# EAGLE library part LTC3407A (library jobygnss)
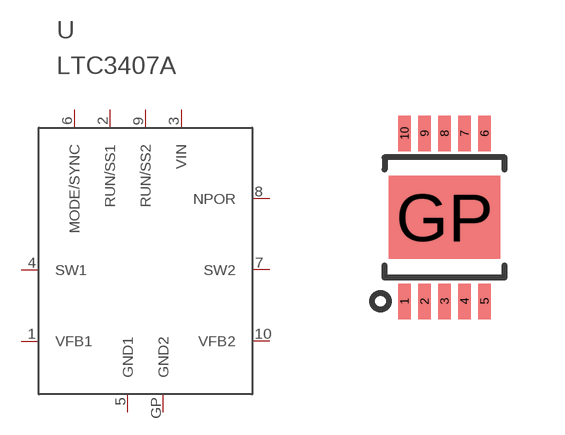
[diagram p9: symbol with the pads of MSOP10; footprint MSOP10]

Designator prefix U

## LTC3407A  [MSOP10]
1  VFB1
2  RUN/SS1
3  VIN
4  SW1
5  GND1
6  MODE/SYNC
7  SW2
8  NPOR
9  RUN/SS2
10  VFB2
GP  GND2

## Footprint MSOP10 (pad centres in mm)
smd 0.305 x 0.889: 1 -1,-2.1; 2 -0.5,-2.1; 3 0,-2.1; 4 0.5,-2.1; 5 1,-2.1; 6 1,2.1; 7 0.5,2.1; 8 0,2.1; 9 -0.5,2.1; 10 -1,2.1
smd 2.794 x 2.083: GP 0,0